# EAGLE library part ANALOG_DEVICES_AD7997BRUZ-1REEL (library Analog Devices - AD7997BRUZ-1REEL)
ADI-AD7997-RU-20
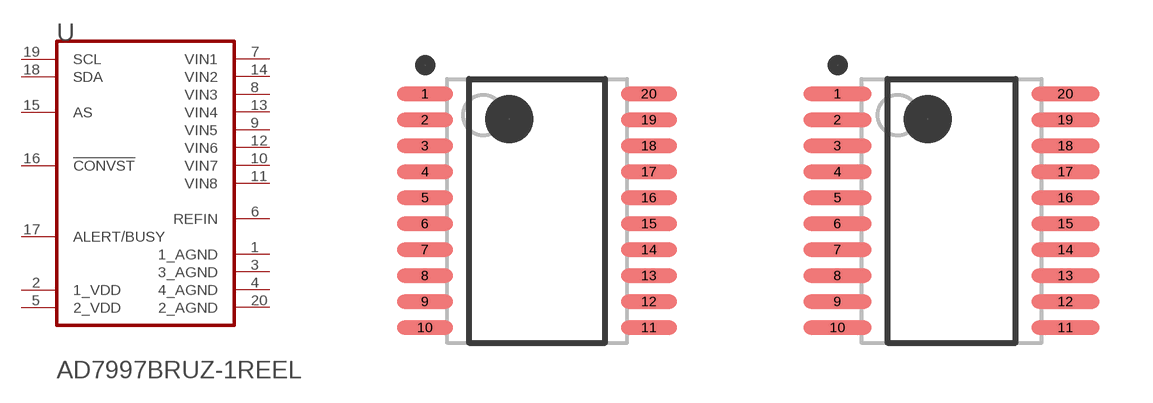
[diagram p0: symbol with the pads of ANALOG_DEVICES_AD7997BRUZ-1REEL_0; footprints ANALOG_DEVICES_AD7997BRUZ-1REEL_0, ANALOG_DEVICES_AD7997BRUZ-1REEL_1]

Designator prefix U

## ANALOG_DEVICES_AD7997BRUZ-1REELANALOG_DEVICES_AD7997BRUZ-1REEL_0_0 (CHANNELS: 8; CIIVA_IDS: 4380982; CODE__JEDEC: MO-153AC; COMPONENT_LINK_1_DESCRIPTION: Manufacturer URL; COMPONENT_LINK_1_URL: http://www.analog.com/en/index.html; COMPONENT_LINK_3_DESCRIPTION: Package Specification; COMPONENT_LINK_3_URL: http://www.analog.com/static/imported-files/packages/364515793657813558433715854054607941441RU20.pdf; COMPONENT_LINK_4_DESCRIPTION: Product URL; COMPONENT_LINK_4_URL: http://www.analog.com/en/analog-to-digital-converters/ad-converters/ad7997/products/product.html; DATASHEET: http://www.analog.com/static/imported-files/data_sheets/AD7997_7998.pdf; DATASHEET_VERSION: Rev.0; FOOTPRINT_VARIANT_NAME_0: Level C; FOOTPRINT_VARIANT_NAME_1: Level B; FOOTPRINT_VARIANT_NAME_2: Level A; IMPORTED: yes; IMPORTED_FROM: vault; IMPORT_TS: 1521848429; INTERFACE: I2C/Ser 2-Wire, Ser; MF: Analog Devices; MOUNTING_TECHNOLOGY: Surface Mount; MPN: AD7997BRUZ-1REEL; PACKAGE: RU-20; PACKAGE_DESCRIPTION: 20-Lead Thin Shrink Small Outline Package [TSSOP]; PACKAGE_VERSION: 2000; PACKING: Reel; PREFIX: U; RELEASE_DATE: 1387032128; RESOLUTION_BITS: 10; ROHS: Yes; THROUGHPUT_RATE_SPS: 79K; VAULT_GUID: A7ABE123-3A90-4C1F-BE7E-7FE114D63781; VAULT_REVISION: 98AE87BF-701A-419B-8AC8-345A379FE084)  [ANALOG_DEVICES_AD7997BRUZ-1REEL_0]
1  1_AGND  pwr
2  1_VDD  pwr
3  3_AGND  pwr
4  4_AGND  pwr
5  2_VDD  pwr
6  REFIN  in
7  VIN1  in
8  VIN3  in
9  VIN5  in
10  VIN7  in
11  VIN8  in
12  VIN6  in
13  VIN4  in
14  VIN2  in
15  AS  in
16  !CONVST!  in
17  ALERT/BUSY  oc
18  SDA
19  SCL  in
20  2_AGND  pwr

## ANALOG_DEVICES_AD7997BRUZ-1REELANALOG_DEVICES_AD7997BRUZ-1REEL_0_1 (CHANNELS: 8; CIIVA_IDS: 4380982; CODE__JEDEC: MO-153AC; COMPONENT_LINK_1_DESCRIPTION: Manufacturer URL; COMPONENT_LINK_1_URL: http://www.analog.com/en/index.html; COMPONENT_LINK_3_DESCRIPTION: Package Specification; COMPONENT_LINK_3_URL: http://www.analog.com/static/imported-files/packages/364515793657813558433715854054607941441RU20.pdf; COMPONENT_LINK_4_DESCRIPTION: Product URL; COMPONENT_LINK_4_URL: http://www.analog.com/en/analog-to-digital-converters/ad-converters/ad7997/products/product.html; DATASHEET: http://www.analog.com/static/imported-files/data_sheets/AD7997_7998.pdf; DATASHEET_VERSION: Rev.0; FOOTPRINT_VARIANT_NAME_0: Level C; FOOTPRINT_VARIANT_NAME_1: Level B; FOOTPRINT_VARIANT_NAME_2: Level A; IMPORTED: yes; IMPORTED_FROM: vault; IMPORT_TS: 1521848429; INTERFACE: I2C/Ser 2-Wire, Ser; MF: Analog Devices; MOUNTING_TECHNOLOGY: Surface Mount; MPN: AD7997BRUZ-1REEL; PACKAGE: RU-20; PACKAGE_DESCRIPTION: 20-Lead Thin Shrink Small Outline Package [TSSOP]; PACKAGE_VERSION: 2000; PACKING: Reel; PREFIX: U; RELEASE_DATE: 1387032128; RESOLUTION_BITS: 10; ROHS: Yes; THROUGHPUT_RATE_SPS: 79K; VAULT_GUID: A7ABE123-3A90-4C1F-BE7E-7FE114D63781; VAULT_REVISION: 98AE87BF-701A-419B-8AC8-345A379FE084)  [ANALOG_DEVICES_AD7997BRUZ-1REEL_1]
Pads as for ANALOG_DEVICES_AD7997BRUZ-1REEL_0

## ANALOG_DEVICES_AD7997BRUZ-1REELANALOG_DEVICES_AD7997BRUZ-1REEL_0_2 (CHANNELS: 8; CIIVA_IDS: 4380982; CODE__JEDEC: MO-153AC; COMPONENT_LINK_1_DESCRIPTION: Manufacturer URL; COMPONENT_LINK_1_URL: http://www.analog.com/en/index.html; COMPONENT_LINK_3_DESCRIPTION: Package Specification; COMPONENT_LINK_3_URL: http://www.analog.com/static/imported-files/packages/364515793657813558433715854054607941441RU20.pdf; COMPONENT_LINK_4_DESCRIPTION: Product URL; COMPONENT_LINK_4_URL: http://www.analog.com/en/analog-to-digital-converters/ad-converters/ad7997/products/product.html; DATASHEET: http://www.analog.com/static/imported-files/data_sheets/AD7997_7998.pdf; DATASHEET_VERSION: Rev.0; FOOTPRINT_VARIANT_NAME_0: Level C; FOOTPRINT_VARIANT_NAME_1: Level B; FOOTPRINT_VARIANT_NAME_2: Level A; IMPORTED: yes; IMPORTED_FROM: vault; IMPORT_TS: 1521848429; INTERFACE: I2C/Ser 2-Wire, Ser; MF: Analog Devices; MOUNTING_TECHNOLOGY: Surface Mount; MPN: AD7997BRUZ-1REEL; PACKAGE: RU-20; PACKAGE_DESCRIPTION: 20-Lead Thin Shrink Small Outline Package [TSSOP]; PACKAGE_VERSION: 2000; PACKING: Reel; PREFIX: U; RELEASE_DATE: 1387032128; RESOLUTION_BITS: 10; ROHS: Yes; THROUGHPUT_RATE_SPS: 79K; VAULT_GUID: A7ABE123-3A90-4C1F-BE7E-7FE114D63781; VAULT_REVISION: 98AE87BF-701A-419B-8AC8-345A379FE084)  [ANALOG_DEVICES_AD7997BRUZ-1REEL_2]
Pads as for ANALOG_DEVICES_AD7997BRUZ-1REEL_0

## Footprint ANALOG_DEVICES_AD7997BRUZ-1REEL_0 (pad centres in mm)
ADI-AD7997-RU-20
smd 1.4 x 0.35: 1 -2.8,2.925; 2 -2.8,2.275; 3 -2.8,1.625; 4 -2.8,0.975; 5 -2.8,0.325; 6 -2.8,-0.325; 7 -2.8,-0.975; 8 -2.8,-1.625; 9 -2.8,-2.275; 10 -2.8,-2.925; 11 2.8,-2.925; 12 2.8,-2.275; 13 2.8,-1.625; 14 2.8,-0.975; 15 2.8,-0.325; 16 2.8,0.325; 17 2.8,0.975; 18 2.8,1.625; 19 2.8,2.275; 20 2.8,2.925

## Footprint ANALOG_DEVICES_AD7997BRUZ-1REEL_1 (pad centres in mm)
ADI-AD7997-RU-20
smd 1.7 x 0.35: 1 -2.85,2.925; 2 -2.85,2.275; 3 -2.85,1.625; 4 -2.85,0.975; 5 -2.85,0.325; 6 -2.85,-0.325; 7 -2.85,-0.975; 8 -2.85,-1.625; 9 -2.85,-2.275; 10 -2.85,-2.925; 11 2.85,-2.925; 12 2.85,-2.275; 13 2.85,-1.625; 14 2.85,-0.975; 15 2.85,-0.325; 16 2.85,0.325; 17 2.85,0.975; 18 2.85,1.625; 19 2.85,2.275; 20 2.85,2.925

## Footprint ANALOG_DEVICES_AD7997BRUZ-1REEL_2 (pad centres in mm)
ADI-AD7997-RU-20
smd 2 x 0.35: 1 -2.9,2.925; 2 -2.9,2.275; 3 -2.9,1.625; 4 -2.9,0.975; 5 -2.9,0.325; 6 -2.9,-0.325; 7 -2.9,-0.975; 8 -2.9,-1.625; 9 -2.9,-2.275; 10 -2.9,-2.925; 11 2.9,-2.925; 12 2.9,-2.275; 13 2.9,-1.625; 14 2.9,-0.975; 15 2.9,-0.325; 16 2.9,0.325; 17 2.9,0.975; 18 2.9,1.625; 19 2.9,2.275; 20 2.9,2.925